# EAGLE library part R7NET (library CARA)
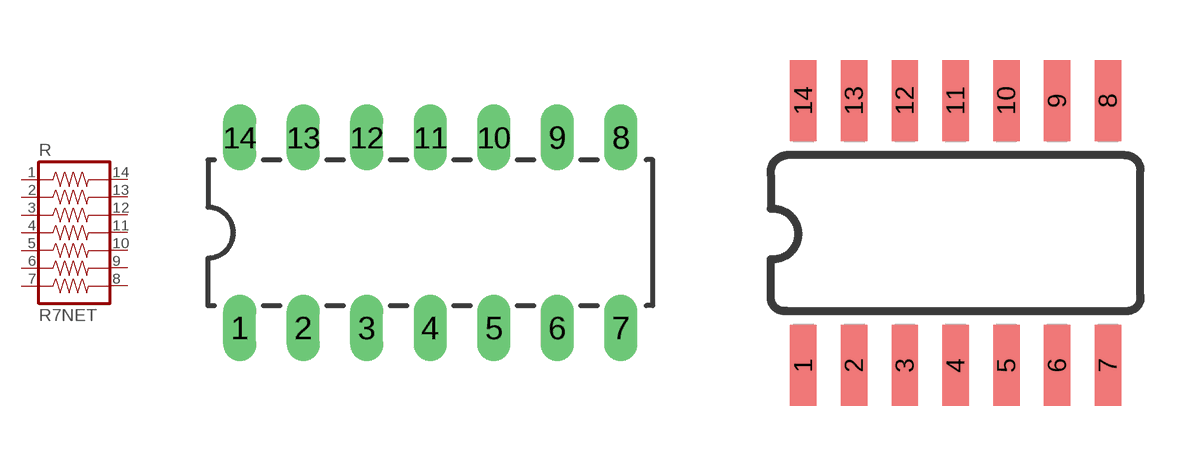
[diagram p3: symbol with the pads of DIL14; footprints DIL14, SOIC-14]

Designator prefix R

## R7NETDIL  [DIL14]
1  P$1  pas
2  P$2  pas
3  P$3  pas
4  P$4  pas
5  P$5  pas
6  P$6  pas
7  P$7  pas
8  P$8  pas
9  P$9  pas
10  P$10  pas
11  P$11  pas
12  P$12  pas
13  P$13  pas
14  P$14  pas

## R7NETSOIC  [SOIC-14]
Pads as for DIL14

## R7NETSOIC_REV  [SOIC-14]
1  P$14  pas
2  P$13  pas
3  P$12  pas
4  P$11  pas
5  P$10  pas
6  P$9  pas
7  P$8  pas
8  P$7  pas
9  P$6  pas
10  P$5  pas
11  P$4  pas
12  P$3  pas
13  P$2  pas
14  P$1  pas

## R7NETSREVCUST  [SOIC-14]
1  P$14  pas
2  P$13  pas
3  P$12  pas
4  P$11  pas
5  P$10  pas
6  P$8  pas
7  P$9  pas
8  P$6  pas
9  P$7  pas
10  P$5  pas
11  P$4  pas
12  P$3  pas
13  P$2  pas
14  P$1  pas

## R7NETDREVCUST  [DIL14]
Pads as for SOIC-14

## Footprint DIL14 (pad centres in mm)
drill 0.813 long: 1 -8.89,-3.81; 2 -6.35,-3.81; 3 -3.81,-3.81; 4 -1.27,-3.81; 5 1.27,-3.81; 6 3.81,-3.81; 7 6.35,-3.81; 8 6.35,3.81; 9 3.81,3.81; 10 1.27,3.81; 11 -1.27,3.81; 12 -3.81,3.81; 13 -6.35,3.81; 14 -8.89,3.81

## Footprint SOIC-14 (pad centres in mm)
smd 0.66 x 2.032: 1 -4.445,-3.315; 2 -3.175,-3.315; 3 -1.905,-3.315; 4 -0.635,-3.315; 5 0.635,-3.315; 6 1.905,-3.315; 7 3.175,-3.315; 8 3.175,3.315; 9 1.905,3.315; 10 0.635,3.315; 11 -0.635,3.315; 12 -1.905,3.315; 13 -3.175,3.315; 14 -4.445,3.315